# EAGLE library part 614108247221 (library OMAT_IC)
WR-COM USB Dual way Horizontal Type A
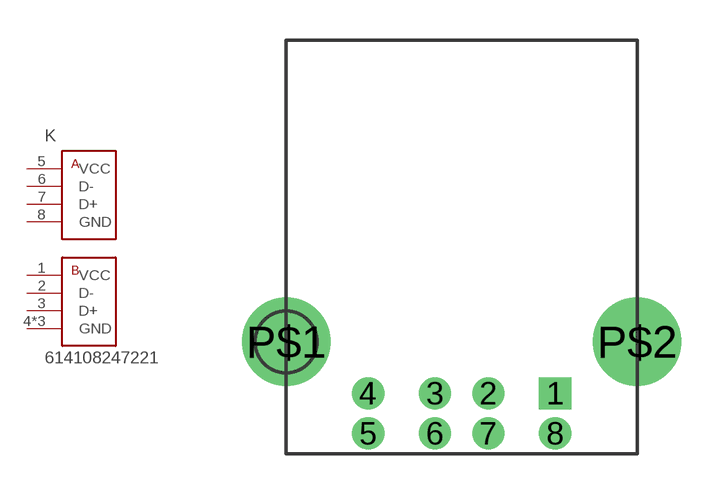
[diagram p8: symbol with the pads of 614108247221; footprint 614108247221]

Designator prefix K

## 614108247221  [614108247221]
1  VCC
2  D-
3  D+
4  GND
5  VCC
6  D-
7  D+
8  GND
P$1  GND
P$2  GND

## Footprint 614108247221 (pad centres in mm)
WR-COM USB Dual way Horizontal Type A
drill 0.7 square: 1 4.5,0
drill 0.7: 2 2,0; 3 0,0; 4 -2.5,0; 5 -2.5,-1.5; 6 0,-1.5; 7 2,-1.5; 8 4.5,-1.5
drill 2.3: P$1 -5.57,1.93; P$2 7.57,1.93